# EAGLE library part MAX572X (library meng)
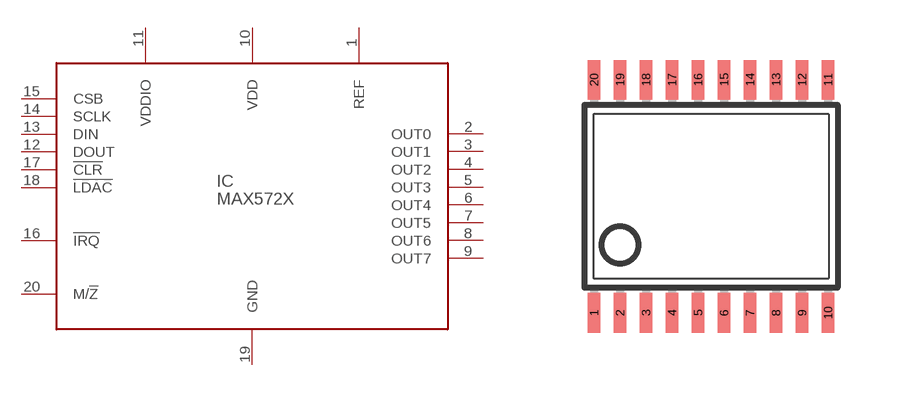
[diagram p13: symbol with the pads of TSSOP20; footprint TSSOP20]

Designator prefix IC

## MAX572X  [TSSOP20]
1  REF
2  OUT0
3  OUT1
4  OUT2
5  OUT3
6  OUT4
7  OUT5
8  OUT6
9  OUT7
10  VDD
11  VDDIO
12  DOUT
13  DIN
14  SCLK
15  CSB
16  !IRQ
17  !CLR
18  !LDAC
19  GND
20  M/!Z

## Footprint TSSOP20 (pad centres in mm)
Thin Shrink Small Outline Plastic 20 MAX3223-MAX3243.pdf
smd 0.305 x 0.991: 1 -2.925,-2.918; 2 -2.275,-2.918; 3 -1.625,-2.918; 4 -0.975,-2.918; 5 -0.325,-2.918; 6 0.325,-2.918; 7 0.975,-2.918; 8 1.625,-2.918; 9 2.275,-2.918; 10 2.925,-2.918; 11 2.925,2.918; 12 2.275,2.918; 13 1.625,2.918; 14 0.975,2.918; 15 0.325,2.918; 16 -0.325,2.918; 17 -0.975,2.918; 18 -1.625,2.918; 19 -2.275,2.918; 20 -2.925,2.918